# EAGLE library part MAX4338 (library maxim)
50mA IOUT, Rail-to-Rail I/O Op Amp with Shutdown/Mute Source: http://datasheets.maxim-ic.com/en/ds/MAX4335-MAX4338.pdf
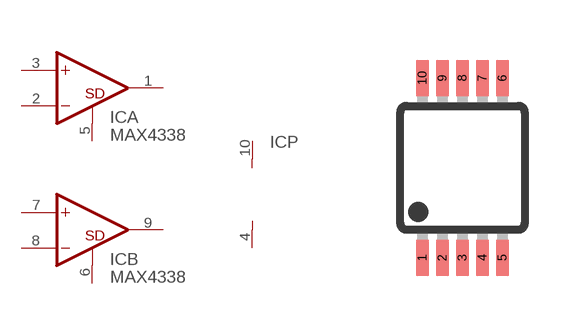
[diagram p353: symbol with the pads of UMAX10; footprint UMAX10]

Designator prefix IC; gates A=OP-SHDOWN B=OP-SHDOWN P=PWR+-GATE

## MAX4338EUB (OC_FARNELL: unknown; OC_NEWARK: unknown)  [UMAX10]
1  A:OUT  out
2  A:-IN  in
3  A:+IN  in
4  P:V-  pwr
5  A:SHUTDOWN  pas
6  B:SHUTDOWN  pas
7  B:+IN  in
8  B:-IN  in
9  B:OUT  out
10  P:V+  pwr

## Footprint UMAX10 (pad centres in mm)
micro MAX Package
smd 0.32 x 0.9: 1 -1,-2.25; 2 -0.5,-2.25; 3 0,-2.25; 4 0.5,-2.25; 5 1,-2.25; 6 1,2.25; 7 0.5,2.25; 8 0,2.25; 9 -0.5,2.25; 10 -1,2.25